# EAGLE library part ESP-32-T-DISPLAY (library ESP32-T-Display)
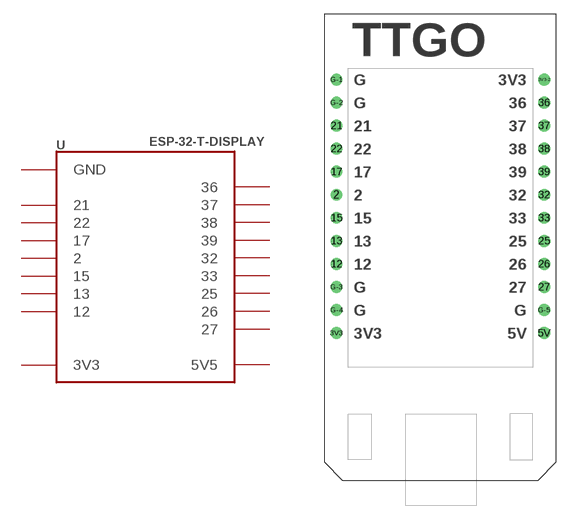
[diagram p0: symbol with the pads of ESP32-T-DISPLAY; footprint ESP32-T-DISPLAY]

Designator prefix -

## ESP-32-T-DISPLAY  [ESP32-T-DISPLAY]
2  2
3V3  3V3
3V3-2  3V3
5V  5V5
12  12
13  13
15  15
17  17
21  21
22  22
25  25
26  26
27  27
32  32
33  33
36  36
37  37
38  38
39  39
G-1  GND
G-2  GND
G-3  GND
G-4  GND
G-5  GND

## Footprint ESP32-T-DISPLAY (pad centres in mm)
drill 0.8: 2 -11.43,16.51; 3V3 -11.43,1.27; 3V3-2 11.43,29.21; 5V 11.43,1.27; 12 -11.43,8.89; 13 -11.43,11.43; 15 -11.43,13.97; 17 -11.43,19.05; 21 -11.43,24.13; 22 -11.43,21.59; 25 11.43,11.43; 26 11.43,8.89; 27 11.43,6.35; 32 11.43,16.51; 33 11.43,13.97; 36 11.43,26.67; 37 11.43,24.13; 38 11.43,21.59; 39 11.43,19.05; G-1 -11.43,29.21; G-2 -11.43,26.67; G-3 -11.43,6.35; G-4 -11.43,3.81; G-5 11.43,3.81